# Altium footprint library 10142708-06200LF.PcbLib: 1 footprints
Each footprint in its own frame and in the unit in brackets; x right, y up, seen from the top. Pads: shape width x height; smd on the part's side, far side on the other; paste and mask are expansions set on the pad; w line width, h text height; cw(c..) or ccw(c..) is an arc to the next point about the centre after c.
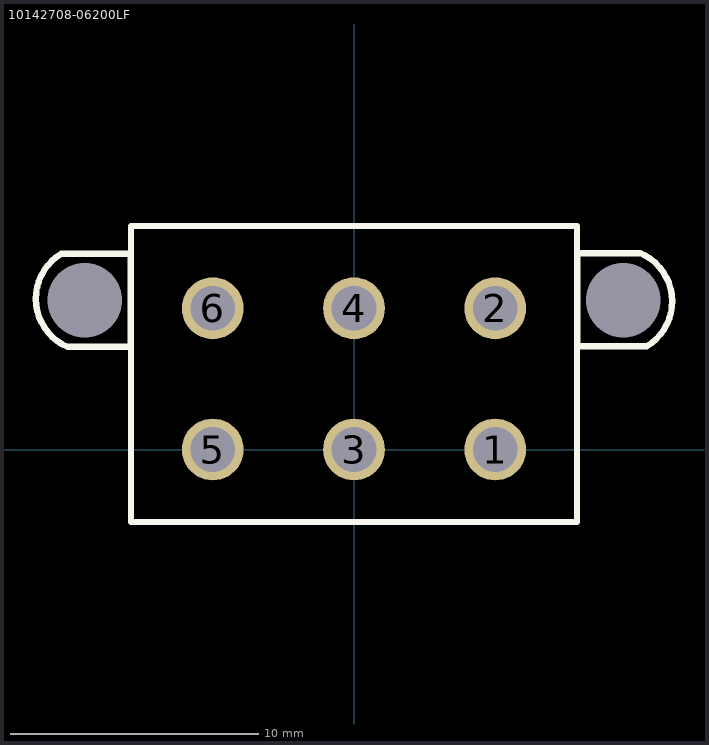
[diagram p0: the footprint, top view; thin cyan lines are the x and y axes]

## 10142708-06200LF [mm] "Amphenol FCI 6p2R"
pads (8):
  round 2.5 hole 1.8: 1(5.7,0) 2(5.7,5.7) 3(0,0) 4(0,5.7) 5(-5.7,0) 6(-5.7,5.7)
  round 0 hole 3: ""(-10.87,6.025) ""(10.87,6.025)
Top Overlay:
  lines w0.254: -11.812,7.902 ccw(c-10.724,6.086) -11.564,4.142 -9.017,4.142 -9.017,7.902 -11.812,7.902 ; -9,-2.921 9,-2.921 9,7.753 9,9.017 -9,9.017 -9,-2.921 ; 9.017,4.163 9.017,7.923 11.564,7.923 cw(c10.724,5.979) 11.812,4.163 9.017,4.163